# EAGLE library part OPAMP_DUAL (library marionette)
Op Amps Dual Package MC4558, dual op amp, Vin = +-2V to 20V, GBW = 5.5MHz, Pkg: SOIC-8, Mfg.: ST, Mfg_Part_No.: MC4558CDT; Digikey Part No.: 497-4051-1-ND, note this part has poor datasheet, check input voltage range. FAN4852, dual op amp, rail to rail outputs, (-0.1V, 2.1V input range), Supply range = (2.5V, 5V), GBW = 9MHz, Pkg.: MSOP-8, Mfg: Fairchild, MPN: FAN4852IMU8X, DPN.: FAN4852IMU8XCT-ND
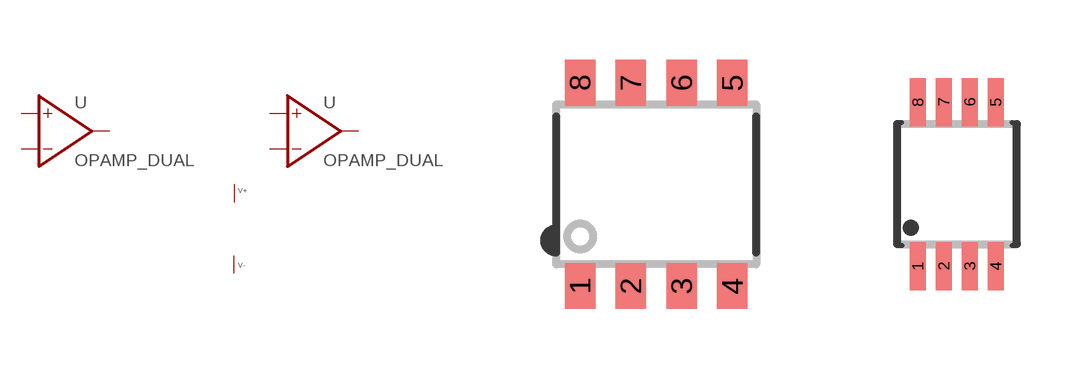
[diagram p14: symbol with the pads of SOIC-8; footprints SOIC-8, MSOP-8]

Designator prefix U; gates G1=OP_AMP G2=OP_AMP G3=PIN_V+ G4=PIN_V-

## OPAMP_DUAL_MC4558CDT  [SOIC-8]
1  G1:OUT  out
2  G1:-IN  in
3  G1:+IN  in
4  G4:V-  pwr
5  G2:+IN  in
6  G2:-IN  in
7  G2:OUT  out
8  G3:V+  pwr

## OPAMP_DUALFAN4852  [MSOP-8]
Pads as for SOIC-8

## Footprint SOIC-8 (pad centres in mm)
smd 0.762 x 1.143: 1 -1.905,-2.54; 2 -0.635,-2.54; 3 0.635,-2.54; 4 1.905,-2.54; 5 1.905,2.54; 6 0.635,2.54; 7 -0.635,2.54; 8 -1.905,2.54

## Footprint MSOP-8 (pad centres in mm)
smd 0.4 x 1.2: 1 -0.975,-2.05; 2 -0.325,-2.05; 3 0.325,-2.05; 4 0.975,-2.05; 5 0.975,2.05; 6 0.325,2.05; 7 -0.325,2.05; 8 -0.975,2.05